# Altium schematic symbol library Connecteur UltraSon.SchLib: 1 symbol
Pins are listed as number, name and electrical type; pins without a type are passive.

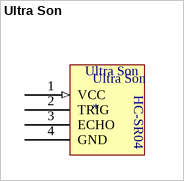
[diagram p0: symbol Ultra Son]

## Ultra Son
designator Ultra Son
footprint Conecteur UltraSon
pins: 1 VCC (in), 2 TRIG, 3 ECHO, 4 GND
text: HC-SR04